# Altium footprint library Inductors.PcbLib: 9 footprints
Each footprint in its own frame and in the unit in brackets; x right, y up, seen from the top. Pads: shape width x height; smd on the part's side, far side on the other; paste and mask are expansions set on the pad; w line width, h text height; cw(c..) or ccw(c..) is an arc to the next point about the centre after c.
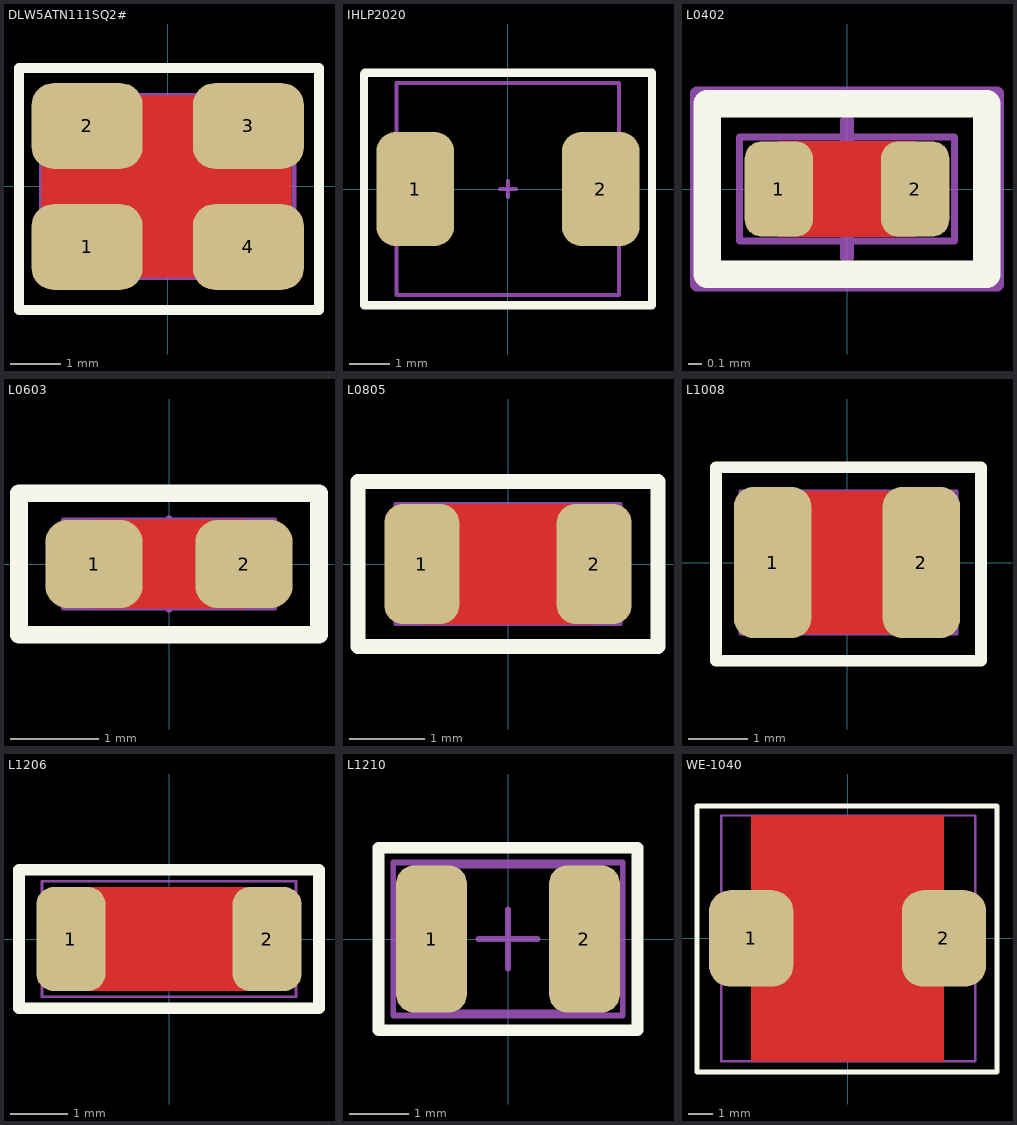
[diagram p0: the footprints below, top view; thin cyan lines are the x and y axes]

## DLW5ATN111SQ2# [mm] "Murata EMI SMD Inductor"
height 2.2
pads (4):
  rrect50% 2.2x1.7 smd: 1(-1.6,-1.2) 2(-1.6,1.2) 3(1.6,1.2) 4(1.6,-1.2)
Top Layer:
  pour cut-out: -2.5,1.8 2.45,1.8 2.45,-1.8 -2.5,-1.8
Top Overlay:
  lines w0.2: -2.95,-2.45 3,-2.45 3,2.35 -2.95,2.35 -2.95,-2.45
Mechanical 7:
  lines w0.05: -2.9,-2.4 3,-2.4 3,2.35 -2.9,2.35 -2.9,-2.4
  text ".Designator" at -0.8,-0.5 h1.5
Mechanical 13:
  lines w0.1: -2.5,-1.8 -2.5,1.8 2.5,1.8 2.5,-1.8 -2.5,-1.8
Mechanical 15:
  lines w0.1: -0.5,0 0.5,0 ; 0,-0.5 0,0.5 ; -2.95,-2.45 3,-2.45 3,2.35 -2.95,2.35 -2.95,-2.45
3D body: height 2.2, standoff 0, extent -2.5,-1.8 2.5,1.8

## IHLP2020 [mm]
pads (2):
  rrect50% 1.9x2.8 smd: 1(-2.275,0) 2(2.275,0)
Top Overlay:
  lines w0.2: -3.525,-2.85 -3.525,0.1 -3.525,2.825 -3.5,2.85 3.525,2.85 3.525,-2.85 -3.525,-2.85
Mechanical 7:
  lines w0.1: -2.73,-2.6 -2.73,2.6 2.72,2.6 2.72,-2.6 -2.73,-2.6
  text ".Designator" at -0.94,-0.46 h1.5
Mechanical 13:
  lines w0.1: -2.73,-2.6 -2.73,2.6 2.72,2.6 2.72,-2.6 -2.73,-2.6
Mechanical 15:
  lines w0.1: -0.2,0 0,0 0.2,0 ; 0,-0.2 0,0.2 ; -2.73,-2.6 2.72,-2.6 2.72,2.6 -2.73,2.6 -2.73,-2.6
3D body "IHLP2020BZ.STEP": height 1.9, standoff -0.02, extent -2.726,-2.573 2.725,2.573

## L0402 [mm] "1005M"
height 0.2
pads (2):
  rrect50% 0.5x0.7 smd: 1(-0.5,0) 2(0.5,0)
Top Layer:
  pour cut-out: -0.5,0.35 0.5,0.35 0.5,-0.35 -0.5,-0.35
Top Overlay:
  lines w0.2: -1.025,-0.625 -1.025,0.625 1.025,0.625 1.025,-0.625 -1.025,-0.625
Mechanical 7:
  lines w0.05: -0.787,-0.381 -0.787,0.381 0.787,0.381 0.787,-0.381 -0.787,-0.381
  text ".Designator" at -0.7,-0.2 h0.7
Mechanical 13:
  lines w0.1: -0.5,-0.3 0.5,-0.3 0.5,0.3 -0.5,0.3 -0.5,-0.3
Mechanical 15:
  lines w0.1: -0.5,0 0.5,0 ; 0,-0.5 0,0.5 ; -1.1,-0.7 1.1,-0.7 1.1,0.7 -1.1,0.7 -1.1,-0.7
3D body "User Library-Chip Inductor (2).step": height 0.5, standoff 0, extent -0.5,-0.3 0.5,0.3

## L0603 [mm] "1608M"
pads (2):
  rrect50% 1.1x1 smd: 1(-0.85,0) 2(0.85,0)
Top Layer:
  pour cut-out: -0.85,0.5 0.85,0.5 0.85,-0.5 -0.85,-0.5
Top Overlay:
  lines w0.2: -1.7,-0.8 1.7,-0.8 1.7,0.8 -1.7,0.8 -1.7,-0.8
Mechanical 7:
  lines w0.05: -1.2,-0.5 -1.2,0.5 1.2,0.5 1.2,-0.5 -1.2,-0.5
  text ".Designator" at -1.1,-0.3 h1
Mechanical 13:
  lines w0.1: -0.8,-0.45 -0.8,0.47 0.8,0.47 0.8,-0.45 0.4,-0.45 -0.4,-0.45 -0.8,-0.45
Mechanical 15:
  lines w0.1: -0.5,0 0.5,0 ; 0,-0.5 0,0.5 ; -1.7,-0.8 -1.7,0.8 1.7,0.8 1.7,-0.8 -1.7,-0.8
3D body "User Library-Chip Inductor (1).step": height 0.8, standoff 0, extent -0.8,-0.475 0.8,0.475

## L0805 [mm]
height 1
pads (2):
  rrect50% 1x1.6 smd: 1(-1.15,0) 2(1.15,0)
Top Layer:
  pour cut-out: -1.15,0.8 1.15,0.8 1.15,-0.8 -1.15,-0.8
Top Overlay:
  lines w0.2: -2,-1.1 2,-1.1 2,1.1 -2,1.1 -2,-1.1
Mechanical 7:
  lines w0.05: -1.5,-0.8 -1.5,0.8 1.5,0.8 1.5,-0.8 -1.5,-0.8
  text ".Designator" at -1.25,-0.25 h1.2
Mechanical 13:
  lines w0.1: -1,-0.6 -1,0.6 1,0.6 1,-0.6 -1,-0.6
Mechanical 15:
  lines w0.1: -0.5,0 0.5,0 ; 0,-0.5 0,0.5 ; -2,-1.1 -2,1.1 2,1.1 2,-1.1 -2,-1.1
3D body "User Library-Chip Inductor (3).step": height 1.2, standoff 0, extent -0.975,-0.65 1.025,0.65

## L1008 [mm]
height 1.2
pads (2):
  rrect50% 1.3x2.54 smd: 1(-1.25,0) 2(1.25,0)
Top Layer:
  pour cut-out: -1.25,1.2 1.25,1.2 1.25,-1.2 -1.25,-1.2
Top Overlay:
  lines w0.2: -2.2,-1.65 -2.2,1.6 2.25,1.6 2.25,-1.65 -2.2,-1.65
Mechanical 7:
  lines w0.05: -1.8,-1.2 -1.8,1.2 1.85,1.2 1.85,-1.2 -1.8,-1.2
  text ".Designator" at -1.6,-0.4 h1.5
Mechanical 13:
  lines w0.1: -1.25,-1.1 1.25,-1.1 1.25,1.1 -1.25,1.1 -1.25,-1.1
Mechanical 15:
  lines w0.1: -0.5,0 0.5,0 ; 0,-0.5 0,0.5 ; -2.2,-1.65 -2.2,1.6 2.25,1.6 2.25,-1.65 -2.2,-1.65
3D body "User Library-Chip InductorINDC2520X220N.STEP": height 2, standoff 0, extent -1.25,-1.1 1.25,1.1

## L1206 [mm]
height 1.6
pads (2):
  rrect50% 1.2x1.8 smd: 1(-1.7,0) 2(1.7,0)
Top Layer:
  pour cut-out: -1.7,0.9 1.7,0.9 1.7,-0.9 -1.7,-0.9
Top Overlay:
  lines w0.2: -2.6,-1.2 2.6,-1.2 2.6,1.2 -2.6,1.2 -2.6,-1.2
Mechanical 7:
  lines w0.05: -2.2,-1 2.2,-1 2.2,1 -2.2,1 -2.2,-1
  text ".Designator" at -1.75,-0.5 h1.5
Mechanical 13:
  lines w0.1: -1.6,-0.7 -1.6,0.7 1.6,0.7 1.6,-0.7 -1.6,-0.7
Mechanical 15:
  lines w0.1: -0.5,0 0.5,0 ; 0,-0.5 0,0.5 ; -2.6,-1.2 2.6,-1.2 2.6,1.2 -2.6,1.2 -2.6,-1.2

## L1210 [mm]
pads (2):
  rrect50% 1.2x2.5 smd: 1(-1.3,0) 2(1.3,0)
Top Overlay:
  lines w0.2: -2.2,-1.55 -2.2,1.55 2.2,1.55 2.2,-1.55 -2.2,-1.55
Mechanical 7:
  lines w0.1: -1.95,-1.3 1.95,-1.3 1.95,1.3 -1.95,1.3 -1.95,-1.3
  text ".Designator" at -1.6,-0.375 h1.5
Mechanical 13:
  lines w0.1: -1.6,-1.25 -1.6,1.25 1.6,1.25 1.6,-1.25 -1.6,-1.25
Mechanical 15:
  lines w0.1: -0.5,0 0.5,0 ; 0,-0.5 0,0.5 ; -2.2,-1.55 2.2,-1.55 2.2,1.55 -2.2,1.55 -2.2,-1.55
3D body "LQH32CN_MN.stp": height 2, standoff 0, extent -1.6,-1.25 1.6,1.25

## WE-1040 [mm] "Wurth Electronil HCI SMD Inductor"
height 4
pads (2):
  rrect50% 3.5x4 smd: 1(-4,0) 2(4,0)
Top Layer:
  pour cut-out: -4,5.1 4,5.1 4,-5.1 -4,-5.1
Top Overlay:
  lines w0.2: -6.25,-5.55 6.2,-5.55 6.2,5.5 -6.25,5.5 -6.25,-5.55
Mechanical 7:
  lines w0.05: -5.25,-5.1 5.3,-5.1 5.3,5.1 -5.25,5.1 -5.25,-5.1
  text ".Designator" at -0.7,0.85 h1.5
Mechanical 13:
  lines w0.1: -5.25,-5.1 -5.25,5.1 5.3,5.1 5.3,-5.1 -5.25,-5.1
Mechanical 15:
  lines w0.1: -0.5,0 0.5,0 ; 0,-0.5 0,0.5 ; -6.25,-5.55 6.2,-5.55 6.2,5.5 -6.25,5.5 -6.25,-5.55
3D body "STEP-WE-HCI-1040-rev1.stp": height 3.99, standoff -0.01, extent -5.249,-5.1 5.25,5.1